# EAGLE library part RELAYBISTABIL (library relay-Fujitsu)
a
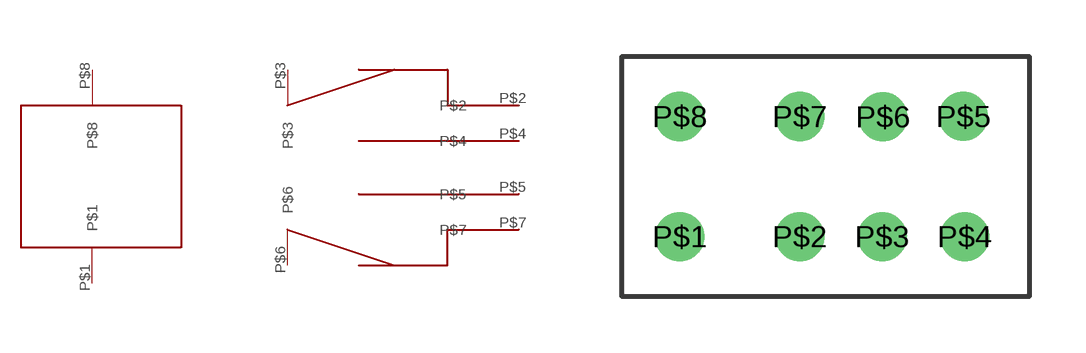
[diagram p0: symbol with the pads of DIP; footprint DIP]

Designator prefix -

## RELAYBISTABILDIP  [DIP]
P$1  P$1
P$2  P$2
P$3  P$3
P$4  P$4
P$5  P$5
P$6  P$6
P$7  P$7
P$8  P$8

## Footprint DIP (pad centres in mm)
drill 0.8: P$1 -3.2,0; P$2 0,0; P$3 2.2,0; P$4 4.4,0; P$5 4.364,3.201; P$6 2.222,3.192; P$7 0,3.2; P$8 -3.2,3.2